# EAGLE library part 5569-6 (library con-molex-5569)
4.20mm Pitch Mini-Fit Jr.™ - 6 pin Source: http://www.molex.com/pdm_docs/sd/039307025_sd.pdf
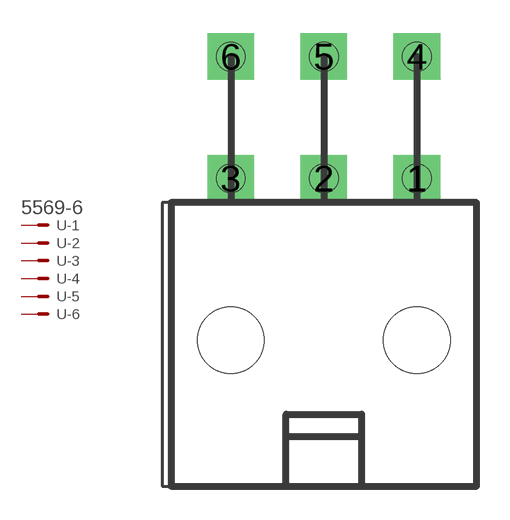
[diagram p9: symbol with the pads of 5569-6; footprint 5569-6]

Designator prefix -; gates -1=MV -2=M -3=M -4=M -5=M -6=M

## 5569-6  [5569-6]
1  -1:>NAME$
2  -2:>NAME$
3  -3:>NAME$
4  -4:>NAME$
5  -5:>NAME$
6  -6:>NAME$

## Footprint 5569-6 (pad centres in mm)
4.20mm Pitch Mini-Fit Jr.™ 6 pin Source: http://www.molex.com/pdm_docs/sd/039307025_sd.pdf
drill 1.4 square: 1 4.2,-2.75; 2 0,-2.75; 3 -4.2,-2.75; 4 4.2,2.75; 5 0,2.75; 6 -4.2,2.75
hole 3 at -4.2,-10.05
hole 3 at 4.2,-10.05
hole 1.3 at -4.2,-2.75
hole 1.3 at 0,-2.75
hole 1.3 at 4.2,-2.75
hole 1.3 at -4.2,2.75
hole 1.3 at 0,2.75
hole 1.3 at 4.2,2.75